# Altium footprint library LED IR.PcbLib: 1 footprints
Each footprint in its own frame and in the unit in brackets; x right, y up, seen from the top. Pads: shape width x height; smd on the part's side, far side on the other; paste and mask are expansions set on the pad; w line width, h text height; cw(c..) or ccw(c..) is an arc to the next point about the centre after c.
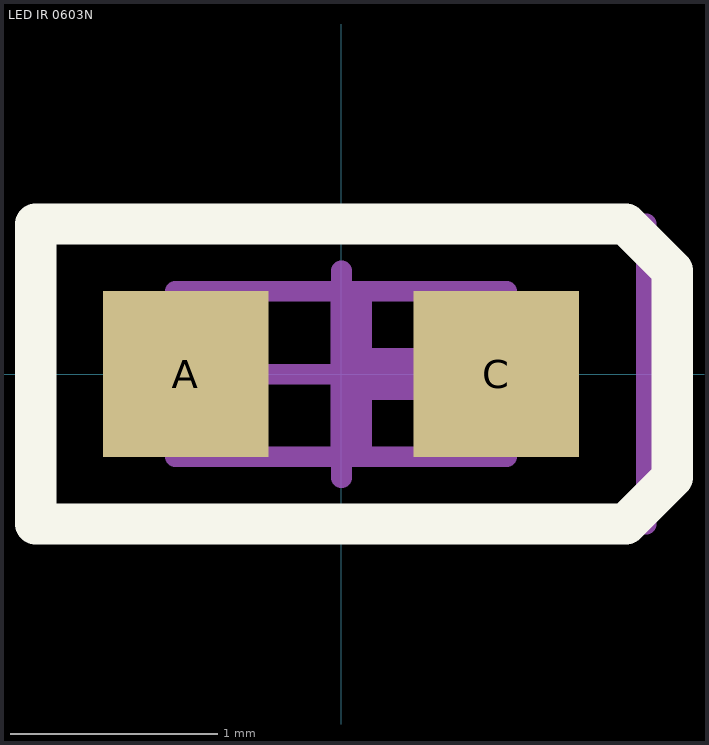
[diagram p0: the footprint, top view; thin cyan lines are the x and y axes]

## LED IR 0603N [mm]
height 1
pads (2):
  rect 0.8x0.8 smd: A(-0.75,0) C(0.75,0)
Top Overlay:
  lines w0.2: -1.475,-0.725 -1.475,0.725 1.375,0.725 1.6,0.5 1.6,-0.5 1.375,-0.725 -1.475,-0.725
Top Package:
  region: 0.15,0.425 -0.05,0.425 -0.05,-0.425 0.15,-0.425
  region: 0.375,0.125 0.15,0.125 0.15,-0.125 0.375,-0.125
  lines w0.1: -0.525,-0.4 -0.525,0.4 ; 0.525,-0.4 0.525,0.4 ; -0.8,-0.4 0.8,-0.4 0.8,0.4 -0.8,0.4 -0.8,-0.4
Top Border:
  lines w0.1: -0.498,-0.001 0.502,-0.001 ; 0.002,-0.501 0.002,0.499 ; -1.475,-0.725 1.475,-0.725 1.475,0.725 -1.475,0.725 -1.475,-0.725
3D body "User Library-LED SMD0805.stp": height 0.85, standoff 0.01, extent -1.031,-0.45 1.031,0.456